# Altium footprint library Mentor.PcbLib: 3 footprints
Each footprint in its own frame and in the unit in brackets; x right, y up, seen from the top. Pads: shape width x height; smd on the part's side, far side on the other; paste and mask are expansions set on the pad; w line width, h text height; cw(c..) or ccw(c..) is an arc to the next point about the centre after c.
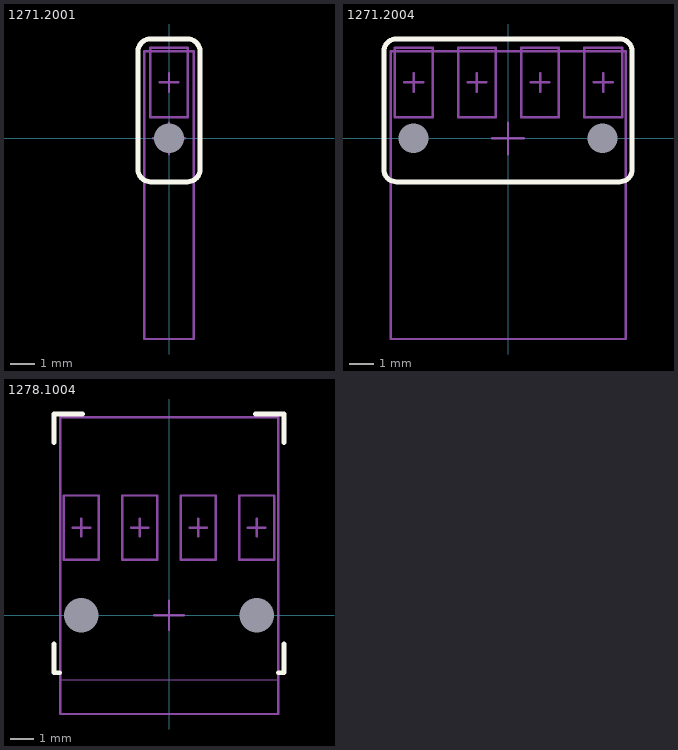
[diagram p0: the footprints below, top view; thin cyan lines are the x and y axes]

## 1271.2001 [mm] "Lightpipe 2mm; 1x; Pitch 2.54; Angled"
height 5.9
pads (1):
  round 0 hole 1.2: 1(0,0)
Top Overlay:
  lines w0.2: -1.25,-1.25 ccw(c-0.75,-1.25) -0.75,-1.75 0.75,-1.75 ccw(c0.75,-1.25) 1.25,-1.25 1.25,3.5 ccw(c0.75,3.5) 0.75,4 -0.75,4 ccw(c-0.75,3.5) -1.25,3.5 -1.25,-1.25
Mechanical 13:
  lines w0.1: -1,-8.08 -1,3.5 1,3.5 1,-8.08 -1,-8.08
Mechanical 15:
  lines w0.1: -0.635,0 0.635,0 ; -0.381,2.25 0.381,2.25 ; 0,-0.635 0,0.635 ; 0,1.869 0,2.631 ; -0.762,0.853 0.762,0.853 0.762,3.647 -0.762,3.647 -0.762,0.853
3D body "test.step": height 3.54, standoff -2.1, extent -1,-8.1 1,3.45

## 1271.2004 [mm] "Lightpipe 2mm; 4x; Pitch 2.54; Angled"
height 5.9
pads (2):
  round 0 hole 1.2: 1(-3.81,0) 2(3.81,0)
Top Overlay:
  lines w0.2: -5,-1.25 ccw(c-4.5,-1.25) -4.5,-1.75 4.5,-1.75 ccw(c4.5,-1.25) 5,-1.25 5,3.5 ccw(c4.5,3.5) 4.5,4 -4.5,4 ccw(c-4.5,3.5) -5,3.5 -5,-1.25
Mechanical 13:
  lines w0.1: -4.724,-8.08 4.746,-8.08 4.746,3.5 -4.724,3.5 -4.724,-8.08
Mechanical 15:
  lines w0.1: -4.171,2.25 -3.409,2.25 ; -3.79,1.869 -3.79,2.631 ; -1.631,2.25 -0.869,2.25 ; -1.25,1.869 -1.25,2.631 ; -0.635,0 0.635,0 ; 0,-0.635 0,0.635 ; 0.909,2.25 1.671,2.25 ; 1.29,1.869 1.29,2.631 ; 3.449,2.25 4.211,2.25 ; 3.83,1.869 3.83,2.631 ; -4.552,0.853 -4.552,3.647 -3.028,3.647 -3.028,0.853 -4.552,0.853 ; -2.012,0.853 -0.488,0.853 -0.488,3.647 -2.012,3.647 -2.012,0.853 ; 0.528,0.853 2.052,0.853 2.052,3.647 0.528,3.647 0.528,0.853 ; 3.068,0.853 4.592,0.853 4.592,3.647 3.068,3.647 3.068,0.853
3D body "1271_2004.stp": height 3.54, standoff -2.1, extent -4.81,-8.1 4.81,3.45

## 1278.1004 [mm] "Lightpipe; 4x; Pitch 2.54; Angled"
height 5.9
pads (2):
  round 0 hole 1.5: 1(-3.81,0) 2(3.81,0)
Top Overlay:
  lines w0.2: -5,-1.25 -5,-2.5 -4.75,-2.5 ; -5,7.5 -5,8.75 -3.75,8.75 ; 3.75,8.75 5,8.75 5,7.5 ; 4.75,-2.5 5,-2.5 5,-1.25
Mechanical 13:
  lines w0.05: -4.724,-2.8 4.725,-2.8
  lines w0.1: -4.724,-4.291 4.746,-4.291 4.746,8.609 -4.724,8.609 -4.724,-4.291
Mechanical 15:
  lines w0.1: -4.191,3.81 -3.429,3.81 ; -3.81,3.429 -3.81,4.191 ; -1.651,3.81 -0.889,3.81 ; -1.27,3.429 -1.27,4.191 ; -0.635,0 0.635,0 ; 0,-0.635 0,0.635 ; 0.889,3.81 1.651,3.81 ; 1.27,3.429 1.27,4.191 ; 3.429,3.81 4.191,3.81 ; 3.81,3.429 3.81,4.191 ; -4.572,2.413 -4.572,5.207 -3.048,5.207 -3.048,2.413 -4.572,2.413 ; -2.032,2.413 -0.508,2.413 -0.508,5.207 -2.032,5.207 -2.032,2.413 ; 0.508,2.413 2.032,2.413 2.032,5.207 0.508,5.207 0.508,2.413 ; 3.048,2.413 4.572,2.413 4.572,5.207 3.048,5.207 3.048,2.413
3D body "1278_1004.stp": height 6, standoff -2.1, extent -4.724,-4.291 4.746,8.609